# EAGLE library part ATMEGA16U4 (library custom)
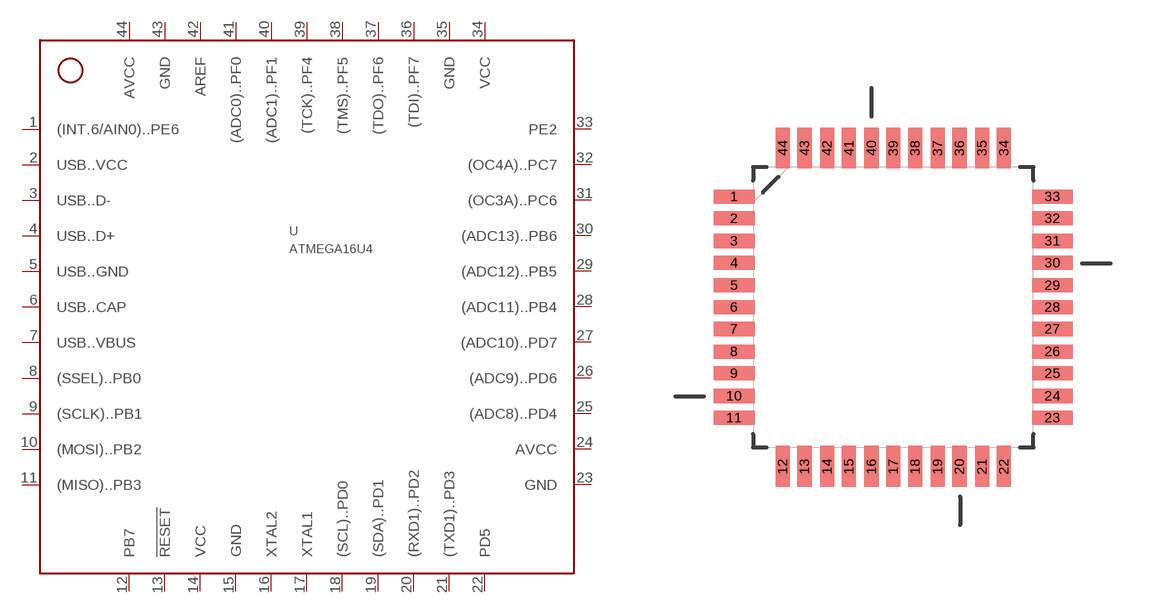
[diagram p11: symbol with the pads of QFP80P1200X1200X120-44N; footprint QFP80P1200X1200X120-44N]

Designator prefix -

## ATMEGA16U4  [QFP80P1200X1200X120-44N]
1  (INT.6/AIN0)..PE6
2  USB..VCC
3  USB..D-
4  USB..D+
5  USB..GND
6  USB..CAP
7  USB..VBUS
8  (SSEL)..PB0
9  (SCLK)..PB1
10  (MOSI)..PB2
11  (MISO)..PB3
12  PB7
13  !RESET
14  VCC
15  GND
16  XTAL2
17  XTAL1
18  (SCL)..PD0
19  (SDA)..PD1
20  (RXD1)..PD2
21  (TXD1)..PD3
22  PD5
23  GND
24  AVCC
25  (ADC8)..PD4
26  (ADC9)..PD6
27  (ADC10)..PD7
28  (ADC11)..PB4
29  (ADC12)..PB5
30  (ADC13)..PB6
31  (OC3A)..PC6
32  (OC4A)..PC7
33  PE2
34  VCC
35  GND
36  (TDI)..PF7
37  (TDO)..PF6
38  (TMS)..PF5
39  (TCK)..PF4
40  (ADC1)..PF1
41  (ADC0)..PF0
42  AREF
43  GND
44  AVCC

## Footprint QFP80P1200X1200X120-44N (pad centres in mm)
smd 1.473 x 0.508: 1 -5.74,3.988; 2 -5.74,3.2; 3 -5.74,2.388; 4 -5.74,1.6; 5 -5.74,0.787; 6 -5.74,0; 7 -5.74,-0.787; 8 -5.74,-1.6; 9 -5.74,-2.388; 10 -5.74,-3.2; 11 -5.74,-3.988; 23 5.74,-3.988; 24 5.74,-3.2; 25 5.74,-2.388; 26 5.74,-1.6; 27 5.74,-0.787; 28 5.74,0; 29 5.74,0.787; 30 5.74,1.6; 31 5.74,2.388; 32 5.74,3.2; 33 5.74,3.988
smd 0.508 x 1.473: 12 -3.988,-5.74; 13 -3.2,-5.74; 14 -2.388,-5.74; 15 -1.6,-5.74; 16 -0.787,-5.74; 17 0,-5.74; 18 0.787,-5.74; 19 1.6,-5.74; 20 2.388,-5.74; 21 3.2,-5.74; 22 3.988,-5.74; 34 3.988,5.74; 35 3.2,5.74; 36 2.388,5.74; 37 1.6,5.74; 38 0.787,5.74; 39 0,5.74; 40 -0.787,5.74; 41 -1.6,5.74; 42 -2.388,5.74; 43 -3.2,5.74; 44 -3.988,5.74